# Altium schematic symbol library 74AVC4TD245.SchLib: 1 symbol
Pins are listed as number, name and electrical type; pins without a type are passive.

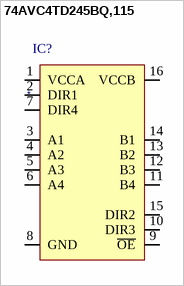
[diagram p0: symbol 74AVC4TD245BQ,115]

## 74AVC4TD245BQ,115
designator IC?
ID: 74AVC4TD245BQ,115; PDF: http://www.nxp.com/documents/data_sheet/74AVC4TD245.pdf; PRICE: 1.08000; BUY_LINK: http://www.digikey.com/product-detail/en/74AVC4TD245BQ,115/568-9220-1-ND/2814138
footprint DHVQFN16
pins: 1 VCCA, 2 DIR1, 3 A1, 4 A2, 5 A3, 6 A4, 7 DIR4, 8 GND, 9 ~{OE}, 10 DIR3, 11 B4, 12 B3, 13 B2, 14 B1, 15 DIR2, 16 VCCB